# EAGLE library part STM32F378RCY6 (library circuit_tree)
IC
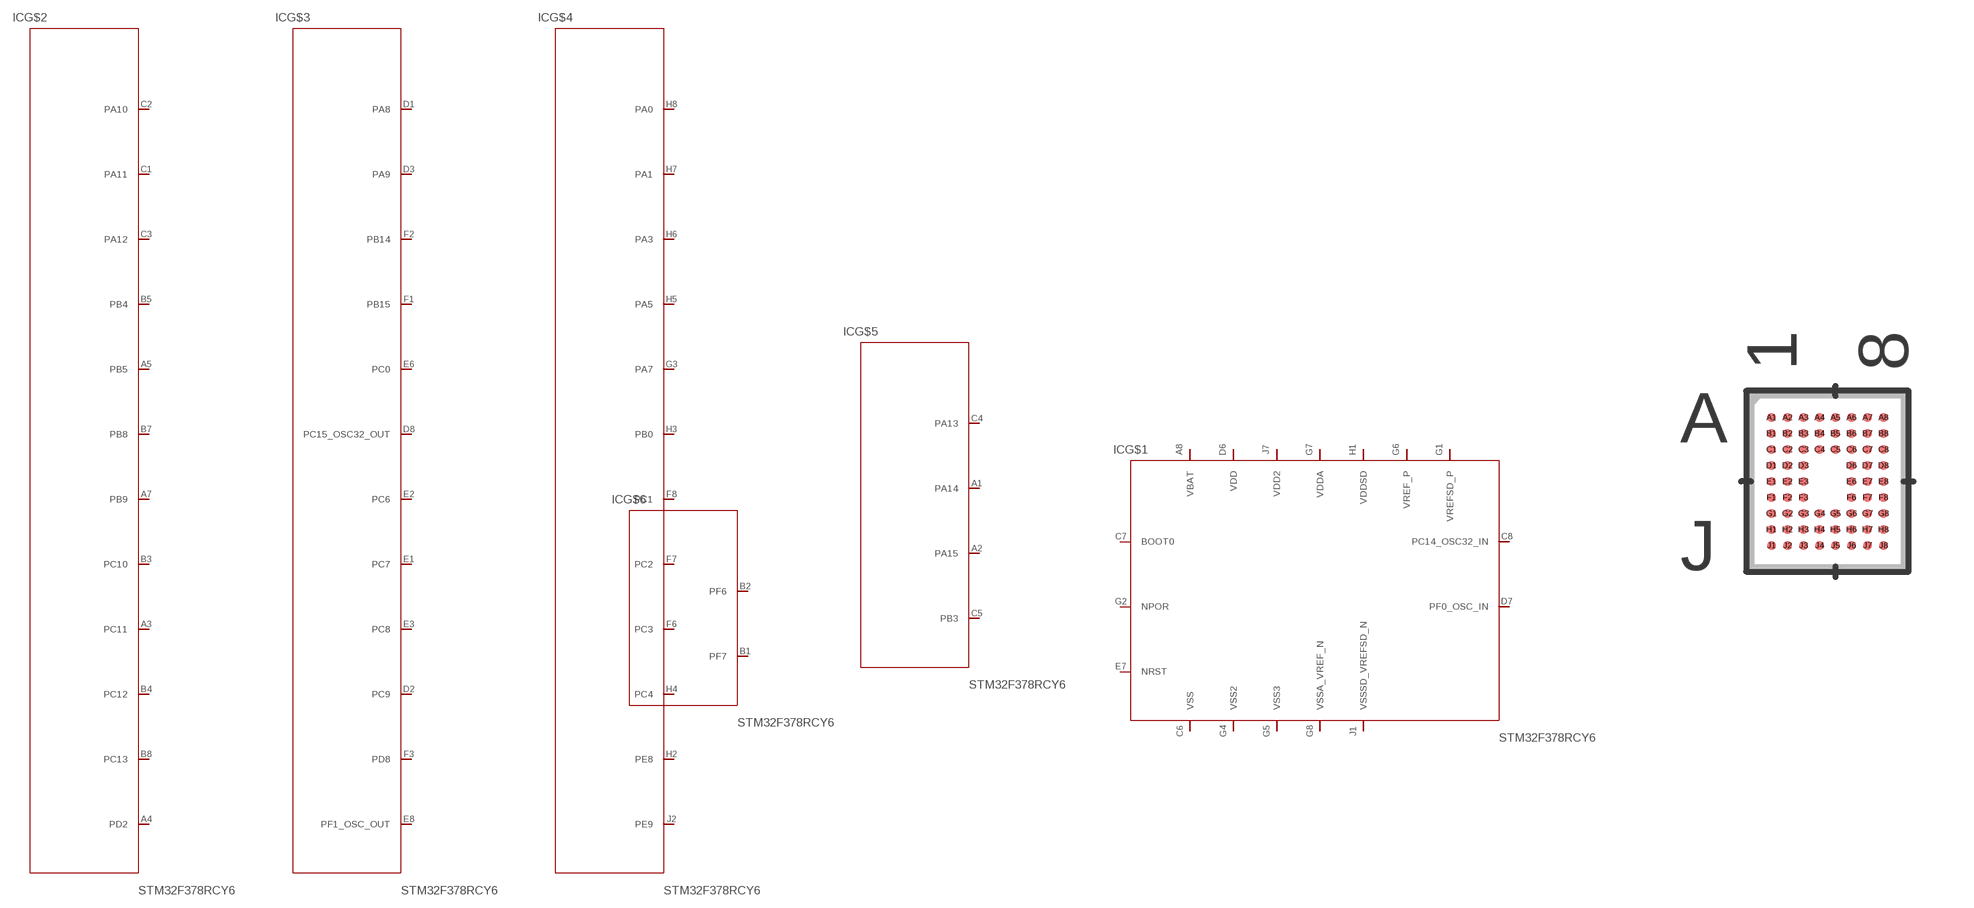
[diagram p5: symbol with the pads of WLCSP66_8X8; footprint WLCSP66_8X8]

Designator prefix IC; gates G$1=STM32F378RCY6 G$2=STM32F378RCY62 G$3=STM32F378RCY63 G$4=STM32F378RCY64 G$5=STM32F378RCY65 G$6=STM32F378RCY66

## STM32F378RCY6  [WLCSP66_8X8]
A1  G$5:PA14  pas
A2  G$5:PA15  pas
A3  G$2:PC11  pas
A4  G$2:PD2  pas
A5  G$2:PB5  pas
A7  G$2:PB9  pas
A8  G$1:VBAT  pas
B1  G$6:PF7  pas
B2  G$6:PF6  pas
B3  G$2:PC10  pas
B4  G$2:PC12  pas
B5  G$2:PB4  pas
B7  G$2:PB8  pas
B8  G$2:PC13  pas
C1  G$2:PA11  pas
C2  G$2:PA10  pas
C3  G$2:PA12  pas
C4  G$5:PA13  pas
C5  G$5:PB3  pas
C6  G$1:VSS  pas
C7  G$1:BOOT0  pas
C8  G$1:PC14_OSC32_IN  pas
D1  G$3:PA8  pas
D2  G$3:PC9  pas
D3  G$3:PA9  pas
D6  G$1:VDD  pas
D7  G$1:PF0_OSC_IN  pas
D8  G$3:PC15_OSC32_OUT  pas
E1  G$3:PC7  pas
E2  G$3:PC6  pas
E3  G$3:PC8  pas
E6  G$3:PC0  pas
E7  G$1:NRST  pas
E8  G$3:PF1_OSC_OUT  pas
F1  G$3:PB15  pas
F2  G$3:PB14  pas
F3  G$3:PD8  pas
F6  G$4:PC3  pas
F7  G$4:PC2  pas
F8  G$4:PC1  pas
G1  G$1:VREFSD_P  pas
G2  G$1:NPOR  pas
G3  G$4:PA7  pas
G4  G$1:VSS2  pas
G5  G$1:VSS3  pas
G6  G$1:VREF_P  pas
G7  G$1:VDDA  pas
G8  G$1:VSSA_VREF_N  pas
H1  G$1:VDDSD  pas
H2  G$4:PE8  pas
H3  G$4:PB0  pas
H4  G$4:PC4  pas
H5  G$4:PA5  pas
H6  G$4:PA3  pas
H7  G$4:PA1  pas
H8  G$4:PA0  pas
J1  G$1:VSSSD_VREFSD_N  pas
J2  G$4:PE9  pas
J7  G$1:VDD2  pas

## Footprint WLCSP66_8X8 (pad centres in mm)
smd 0.229 x 0.229: A1 -1.4,1.6; A2 -1,1.6; A3 -0.6,1.6; A4 -0.2,1.6; A5 0.2,1.6; A6 0.6,1.6; A7 1,1.6; A8 1.4,1.6; B1 -1.4,1.2; B2 -1,1.2; B3 -0.6,1.2; B4 -0.2,1.2; B5 0.2,1.2; B6 0.6,1.2; B7 1,1.2; B8 1.4,1.2; C1 -1.4,0.8; C2 -1,0.8; C3 -0.6,0.8; C4 -0.2,0.8; C5 0.2,0.8; C6 0.6,0.8; C7 1,0.8; C8 1.4,0.8; D1 -1.4,0.4; D2 -1,0.4; D3 -0.6,0.4; D6 0.6,0.4; D7 1,0.4; D8 1.4,0.4; E1 -1.4,0; E2 -1,0; E3 -0.6,0; E6 0.6,0; E7 1,0; E8 1.4,0; F1 -1.4,-0.4; F2 -1,-0.4; F3 -0.6,-0.4; F6 0.6,-0.4; F7 1,-0.4; F8 1.4,-0.4; G1 -1.4,-0.8; G2 -1,-0.8; G3 -0.6,-0.8; G4 -0.2,-0.8; G5 0.2,-0.8; G6 0.6,-0.8; G7 1,-0.8; G8 1.4,-0.8; H1 -1.4,-1.2; H2 -1,-1.2; H3 -0.6,-1.2; H4 -0.2,-1.2; H5 0.2,-1.2; H6 0.6,-1.2; H7 1,-1.2; H8 1.4,-1.2; J1 -1.4,-1.6; J2 -1,-1.6; J3 -0.6,-1.6; J4 -0.2,-1.6; J5 0.2,-1.6; J6 0.6,-1.6; J7 1,-1.6; J8 1.4,-1.6